# EAGLE library part STMICROELECTRONICS_STM32F446RET6 (library STM32F446RET6)
MCU 32-bit ARM Cortex M4 RISC 512KB Flash 2.5V/3.3V Medical 64-Pin LQFP Frame
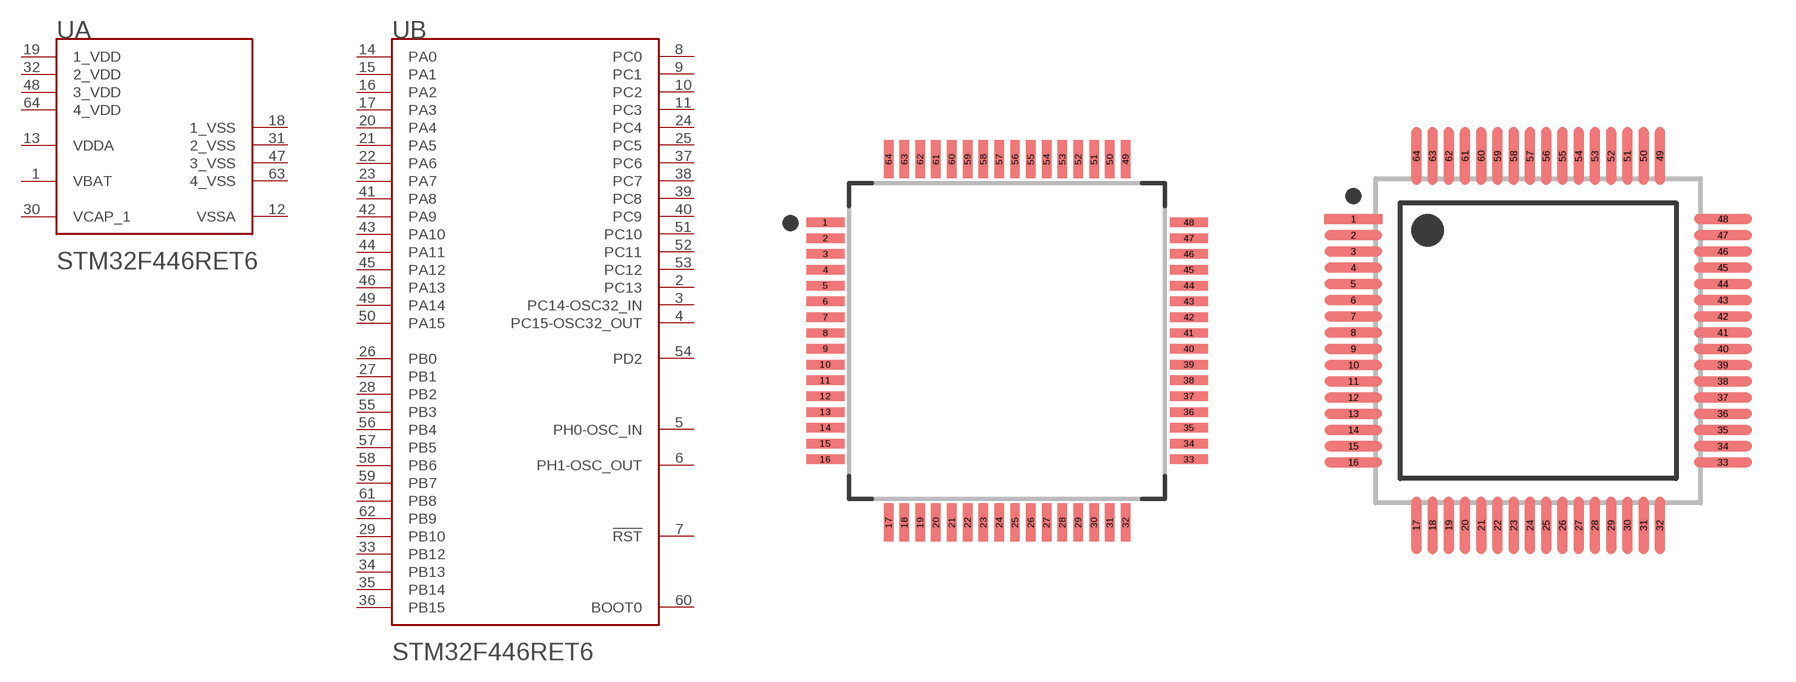
[diagram p0: symbol with the pads of STMICROELECTRONICS_STM32F446RET6_0; footprints STMICROELECTRONICS_STM32F446RET6_0, STMICROELECTRONICS_STM32F446RET6_1]

Designator prefix U; gates A=STMICROELECTRONICS_STM32F446RET6_0_0 B=STMICROELECTRONICS_STM32F446RET6_0_1

## STMICROELECTRONICS_STM32F446RET6STMICROELECTRONICS_STM32F446RET6_0_0 (AMBIENT_TEMPERATURE_RANGE_HIGH: +85°C; AMBIENT_TEMPERATURE_RANGE_LOW: -40°C; AUTOMOTIVE: No; CENTROID_NOT_SPECIFIED: No; CORE_ARCHITECTURE: ARM Cortex-M4; DATASHEET: https://www.st.com/resource/en/datasheet/stm32f446re.pdf; DATA_BUS_WIDTH: 32b; DEVICE_CLASS_L1: Integrated Circuits (ICs); DEVICE_CLASS_L2: Embedded Processors and Controllers; DEVICE_CLASS_L3: Microcontrollers; DIGIKEY_DESCRIPTION: IC MCU 32BIT 512KB FLASH 64LQFP; DIGIKEY_PART_NUMBER: 497-15376-ND; FOOTPRINT_PARAMETERS_1: {"fp_type":"MQFP","params":{"N1":{"nom":16,"long name":"Leads on long side","min":null,"max":null,"short name":"N1","type":"count"},"N2":{"nom":16,"long name":"Leads on wide side","min":null,"max":null,"short name":"N2","type":"count"},"A":{"nom":false,"long name":"Height","min":false,"max":1600000,"short name":"A","type":"measurement"},"A1":{"nom":false,"long name":"Package clearance","min":50000,"max":150000,"short name":"A1","type":"measurement"},"A2":{"nom":1400000,"long name":"Package height","min":1350000,"max":1450000,"short name":"A2","type":"measurement"},"D":{"nom":12000000,"long name":"Length /w leads","min":false,"max":false,"short name":"D","type":"measurement"},"D1":{"nom":10000000,"long name":"Package length","min":false,"max":false,"short name":"D1","type":"measurement"},"E":{"nom":12000000,"long name":"Width /w leads","min":false,"max":false,"short name":"E","type":"measurement"},"E1":{"nom":10000000,"long name":"Package width","min":false,"max":false,"short name":"E1","type":"measurement"},"B":{"nom":220000,"long name":"Lead width","min":170000,"max":270000,"short name":"B","type":"measurement"},"C":{"nom":false,"long name":"Lead thickness","min":90000,"max":200000,"short name":"C","type":"measurement"},"L":{"nom":600000,"long name":"Lead foot length","min":450000,"max":750000,"short name":"L","type":"measurement"},"e":{"nom":500000,"long name":"Lead pitch","min":null,"max":null,"short name":"e","type":"measurement"},"PHI":{"nom":false,"long name":"Lead angle","min":0,"max":70,"short name":"PHI","type":"measurement"},"HT":{"default":"No","long name":"Thermal pad","type":"multichoiceparent","short name":"HT","children":[]},"offset x":{"nom":0,"long name":"X Center offset","min":null,"max":null,"short name":"offset x","type":"measurement"},"offset y":{"nom":0,"long name":"Y Center offset","min":null,"max":null,"short name":"offset y","type":"measurement"},"LS":{"default":"Rounded rectangle","long name":"Land shape","type":"multichoice","short name":"LS"},"LS1":{"default":"Rectangle","long name":"Land shape (Pin 1)","type":"multichoice","short name":"LS1"},"solder toe":{"nom":550000,"long name":"Solder fillet (toe)","min":null,"max":null,"short name":"solder toe","type":"fixedmeasurement"},"solder heel":{"nom":450000,"long name":"Solder fillet (heel)","min":null,"max":null,"short name":"solder heel","type":"fixedmeasurement"},"solder side":{"nom":10000,"long name":"Solder fillet (side)","min":null,"max":null,"short name":"solder side","type":"fixedmeasurement"},"courtyard":{"nom":500000,"long name":"Courtyard","min":null,"max":null,"short name":"courtyard","type":"fixedmeasurement"},"SF":{"default":"A (<= 0.625mm pitch)","long name":"Packing level","type":"multichoiceparent","short name":"SF","help":"http://support.upverter.com/customer/portal/articles/978783-what-is-a-footprint-packing-level","children":["solder toe","solder heel","solder side","courtyard"]}}}; FOOTPRINT_PARAMETERS_2: {"fp_type":"MQFP","params":{"N1":{"nom":16,"long name":"Leads on long side","min":null,"max":null,"short name":"N1","type":"count"},"N2":{"nom":16,"long name":"Leads on wide side","min":null,"max":null,"short name":"N2","type":"count"},"A":{"nom":false,"long name":"Height","min":false,"max":1600000,"short name":"A","type":"measurement"},"A1":{"nom":false,"long name":"Package clearance","min":50000,"max":150000,"short name":"A1","type":"measurement"},"A2":{"nom":1400000,"long name":"Package height","min":1350000,"max":1450000,"short name":"A2","type":"measurement"},"D":{"nom":12000000,"long name":"Length /w leads","min":false,"max":false,"short name":"D","type":"measurement"},"D1":{"nom":10000000,"long name":"Package length","min":false,"max":false,"short name":"D1","type":"measurement"},"E":{"nom":12000000,"long name":"Width /w leads","min":false,"max":false,"short name":"E","type":"measurement"},"E1":{"nom":10000000,"long name":"Package width","min":false,"max":false,"short name":"E1","type":"measurement"},"B":{"nom":220000,"long name":"Lead width","min":170000,"max":270000,"short name":"B","type":"measurement"},"C":{"nom":false,"long name":"Lead thickness","min":90000,"max":200000,"short name":"C","type":"measurement"},"L":{"nom":600000,"long name":"Lead foot length","min":450000,"max":750000,"short name":"L","type":"measurement"},"e":{"nom":500000,"long name":"Lead pitch","min":null,"max":null,"short name":"e","type":"measurement"},"PHI":{"nom":false,"long name":"Lead angle","min":0,"max":70,"short name":"PHI","type":"measurement"},"HT":{"default":"No","long name":"Thermal pad","type":"multichoiceparent","short name":"HT","children":[]},"offset x":{"nom":0,"long name":"X Center offset","min":null,"max":null,"short name":"offset x","type":"measurement"},"offset y":{"nom":0,"long name":"Y Center offset","min":null,"max":null,"short name":"offset y","type":"measurement"},"LS":{"default":"Rounded rectangle","long name":"Land shape","type":"multichoice","short name":"LS"},"LS1":{"default":"Rectangle","long name":"Land shape (Pin 1)","type":"multichoice","short name":"LS1"},"solder toe":{"nom":350000,"long name":"Solder fillet (toe)","min":null,"max":null,"short name":"solder toe","type":"fixedmeasurement"},"solder heel":{"nom":350000,"long name":"Solder fillet (heel)","min":null,"max":null,"short name":"solder heel","type":"fixedmeasurement"},"solder side":{"nom":-20000,"long name":"Solder fillet (side)","min":null,"max":null,"short name":"solder side","type":"fixedmeasurement"},"courtyard":{"nom":250000,"long name":"Courtyard","min":null,"max":null,"short name":"courtyard","type":"fixedmeasurement"},"SF":{"default":"B (<= 0.625mm pitch)","long name":"Packing level","type":"multichoiceparent","short name":"SF","help":"http://support.upverter.com/customer/portal/articles/978783-what-is-a-footprint-packing-level","children":["solder toe","solder heel","solder side","courtyard"]}}}; FOOTPRINT_PARAMETERS_3: {"fp_type":"MQFP","params":{"N1":{"nom":16,"long name":"Leads on long side","min":null,"max":null,"short name":"N1","type":"count"},"N2":{"nom":16,"long name":"Leads on wide side","min":null,"max":null,"short name":"N2","type":"count"},"A":{"nom":false,"long name":"Height","min":false,"max":1600000,"short name":"A","type":"measurement"},"A1":{"nom":false,"long name":"Package clearance","min":50000,"max":150000,"short name":"A1","type":"measurement"},"A2":{"nom":1400000,"long name":"Package height","min":1350000,"max":1450000,"short name":"A2","type":"measurement"},"D":{"nom":12000000,"long name":"Length /w leads","min":false,"max":false,"short name":"D","type":"measurement"},"D1":{"nom":10000000,"long name":"Package length","min":false,"max":false,"short name":"D1","type":"measurement"},"E":{"nom":12000000,"long name":"Width /w leads","min":false,"max":false,"short name":"E","type":"measurement"},"E1":{"nom":10000000,"long name":"Package width","min":false,"max":false,"short name":"E1","type":"measurement"},"B":{"nom":220000,"long name":"Lead width","min":170000,"max":270000,"short name":"B","type":"measurement"},"C":{"nom":false,"long name":"Lead thickness","min":90000,"max":200000,"short name":"C","type":"measurement"},"L":{"nom":600000,"long name":"Lead foot length","min":450000,"max":750000,"short name":"L","type":"measurement"},"e":{"nom":500000,"long name":"Lead pitch","min":null,"max":null,"short name":"e","type":"measurement"},"PHI":{"nom":false,"long name":"Lead angle","min":0,"max":70,"short name":"PHI","type":"measurement"},"HT":{"default":"No","long name":"Thermal pad","type":"multichoiceparent","short name":"HT","children":[]},"offset x":{"nom":0,"long name":"X Center offset","min":null,"max":null,"short name":"offset x","type":"measurement"},"offset y":{"nom":0,"long name":"Y Center offset","min":null,"max":null,"short name":"offset y","type":"measurement"},"LS":{"default":"Rounded rectangle","long name":"Land shape","type":"multichoice","short name":"LS"},"LS1":{"default":"Rectangle","long name":"Land shape (Pin 1)","type":"multichoice","short name":"LS1"},"solder toe":{"nom":150000,"long name":"Solder fillet (toe)","min":null,"max":null,"short name":"solder toe","type":"fixedmeasurement"},"solder heel":{"nom":250000,"long name":"Solder fillet (heel)","min":null,"max":null,"short name":"solder heel","type":"fixedmeasurement"},"solder side":{"nom":-40000,"long name":"Solder fillet (side)","min":null,"max":null,"short name":"solder side","type":"fixedmeasurement"},"courtyard":{"nom":100000,"long name":"Courtyard","min":null,"max":null,"short name":"courtyard","type":"fixedmeasurement"},"SF":{"default":"C (<= 0.625mm pitch)","long name":"Packing level","type":"multichoiceparent","short name":"SF","help":"http://support.upverter.com/customer/portal/articles/978783-what-is-a-footprint-packing-level","children":["solder toe","solder heel","solder side","courtyard"]}}}; FOOTPRINT_VARIANT_NAME_0: Recommended_Land_Pattern; FOOTPRINT_VARIANT_NAME_1: IPC_A; FOOTPRINT_VARIANT_NAME_2: IPC_B; FOOTPRINT_VARIANT_NAME_3: IPC_C; FREQUENCY: 180MHz; HEIGHT: 1.6mm; INTERFACE: I2C,SPI,UART,USART,CAN,USB,LIN,IrDA,I2S,Other; LEAD_FREE: Yes; MAX_JUNCTION_TEMP: +125°C; MAX_SUPPLY_VOLTAGE: 3.6V; MEMORY_SIZE: 512KBytes; MEMORY_TYPE: FLASH; MF: STMicroelectronics; MFG_PACKAGE_IDENT: LQFP64-5W; MFG_PACKAGE_IDENT_COMPONENT_ID: ac0a92a8d775d0c0; MFG_PACKAGE_IDENT_DATE: 0; MFG_PACKAGE_IDENT_REV: 3; MIN_SUPPLY_VOLTAGE: 1.65V; MOUSER_DESCRIPTION: ARM Microcontrollers - MCU High-performance and DSP with FP, ARM Cortex-M4 MCU with 512 Kbytes Flash, 180 MHz CPU, Art Accelerator, SDRAM; MOUSER_PART_NUMBER: 511-STM32F446RET6; MPN: STM32F446RET6; NUMBER_OF_A/D_CONVERTERS: 3; NUMBER_OF_ADC_CHANNELS: 16; NUMBER_OF_CORES: 1; NUMBER_OF_I/OS: 50; NUMBER_OF_I2C_CHANNELS: 4; NUMBER_OF_PWM_CHANNELS: 25; NUMBER_OF_SPI_CHANNELS: 4; NUMBER_OF_TIMERS/COUNTERS: 14; NUMBER_OF_UART_CHANNELS: 6; NUMBER_OF_USB_CHANNELS: 2; PACKAGE: LQFP64; PREFIX: U; RAM_SIZE: 128KBytes; ROHS: Yes; STANDOFF_HEIGHT: 0.05mm; TEMPERATURE_RANGE_HIGH: +85°C; TEMPERATURE_RANGE_LOW: -40°C; VERIFICATION_VERSION: 0.0.0.3)  [STMICROELECTRONICS_STM32F446RET6_0]
1  A:VBAT  pwr
2  B:PC13
3  B:PC14-OSC32_IN
4  B:PC15-OSC32_OUT
5  B:PH0-OSC_IN
6  B:PH1-OSC_OUT
7  B:!RST!  in
8  B:PC0
9  B:PC1
10  B:PC2
11  B:PC3
12  A:VSSA  pwr
13  A:VDDA  pwr
14  B:PA0
15  B:PA1
16  B:PA2
17  B:PA3
18  A:1_VSS  pwr
19  A:1_VDD  pwr
20  B:PA4
21  B:PA5
22  B:PA6
23  B:PA7
24  B:PC4
25  B:PC5
26  B:PB0
27  B:PB1
28  B:PB2
29  B:PB10
30  A:VCAP_1  pwr
31  A:2_VSS  pwr
32  A:2_VDD  pwr
33  B:PB12
34  B:PB13
35  B:PB14
36  B:PB15
37  B:PC6
38  B:PC7
39  B:PC8
40  B:PC9
41  B:PA8
42  B:PA9
43  B:PA10
44  B:PA11
45  B:PA12
46  B:PA13
47  A:3_VSS  pwr
48  A:3_VDD  pwr
49  B:PA14
50  B:PA15
51  B:PC10
52  B:PC11
53  B:PC12
54  B:PD2
55  B:PB3
56  B:PB4
57  B:PB5
58  B:PB6
59  B:PB7
60  B:BOOT0  in
61  B:PB8
62  B:PB9
63  A:4_VSS  pwr
64  A:4_VDD  pwr

## STMICROELECTRONICS_STM32F446RET6STMICROELECTRONICS_STM32F446RET6_0_1 (AMBIENT_TEMPERATURE_RANGE_HIGH: +85°C; AMBIENT_TEMPERATURE_RANGE_LOW: -40°C; AUTOMOTIVE: No; CENTROID_NOT_SPECIFIED: No; CORE_ARCHITECTURE: ARM Cortex-M4; DATASHEET: https://www.st.com/resource/en/datasheet/stm32f446re.pdf; DATA_BUS_WIDTH: 32b; DEVICE_CLASS_L1: Integrated Circuits (ICs); DEVICE_CLASS_L2: Embedded Processors and Controllers; DEVICE_CLASS_L3: Microcontrollers; DIGIKEY_DESCRIPTION: IC MCU 32BIT 512KB FLASH 64LQFP; DIGIKEY_PART_NUMBER: 497-15376-ND; FOOTPRINT_PARAMETERS_1: {"fp_type":"MQFP","params":{"N1":{"nom":16,"long name":"Leads on long side","min":null,"max":null,"short name":"N1","type":"count"},"N2":{"nom":16,"long name":"Leads on wide side","min":null,"max":null,"short name":"N2","type":"count"},"A":{"nom":false,"long name":"Height","min":false,"max":1600000,"short name":"A","type":"measurement"},"A1":{"nom":false,"long name":"Package clearance","min":50000,"max":150000,"short name":"A1","type":"measurement"},"A2":{"nom":1400000,"long name":"Package height","min":1350000,"max":1450000,"short name":"A2","type":"measurement"},"D":{"nom":12000000,"long name":"Length /w leads","min":false,"max":false,"short name":"D","type":"measurement"},"D1":{"nom":10000000,"long name":"Package length","min":false,"max":false,"short name":"D1","type":"measurement"},"E":{"nom":12000000,"long name":"Width /w leads","min":false,"max":false,"short name":"E","type":"measurement"},"E1":{"nom":10000000,"long name":"Package width","min":false,"max":false,"short name":"E1","type":"measurement"},"B":{"nom":220000,"long name":"Lead width","min":170000,"max":270000,"short name":"B","type":"measurement"},"C":{"nom":false,"long name":"Lead thickness","min":90000,"max":200000,"short name":"C","type":"measurement"},"L":{"nom":600000,"long name":"Lead foot length","min":450000,"max":750000,"short name":"L","type":"measurement"},"e":{"nom":500000,"long name":"Lead pitch","min":null,"max":null,"short name":"e","type":"measurement"},"PHI":{"nom":false,"long name":"Lead angle","min":0,"max":70,"short name":"PHI","type":"measurement"},"HT":{"default":"No","long name":"Thermal pad","type":"multichoiceparent","short name":"HT","children":[]},"offset x":{"nom":0,"long name":"X Center offset","min":null,"max":null,"short name":"offset x","type":"measurement"},"offset y":{"nom":0,"long name":"Y Center offset","min":null,"max":null,"short name":"offset y","type":"measurement"},"LS":{"default":"Rounded rectangle","long name":"Land shape","type":"multichoice","short name":"LS"},"LS1":{"default":"Rectangle","long name":"Land shape (Pin 1)","type":"multichoice","short name":"LS1"},"solder toe":{"nom":550000,"long name":"Solder fillet (toe)","min":null,"max":null,"short name":"solder toe","type":"fixedmeasurement"},"solder heel":{"nom":450000,"long name":"Solder fillet (heel)","min":null,"max":null,"short name":"solder heel","type":"fixedmeasurement"},"solder side":{"nom":10000,"long name":"Solder fillet (side)","min":null,"max":null,"short name":"solder side","type":"fixedmeasurement"},"courtyard":{"nom":500000,"long name":"Courtyard","min":null,"max":null,"short name":"courtyard","type":"fixedmeasurement"},"SF":{"default":"A (<= 0.625mm pitch)","long name":"Packing level","type":"multichoiceparent","short name":"SF","help":"http://support.upverter.com/customer/portal/articles/978783-what-is-a-footprint-packing-level","children":["solder toe","solder heel","solder side","courtyard"]}}}; FOOTPRINT_PARAMETERS_2: {"fp_type":"MQFP","params":{"N1":{"nom":16,"long name":"Leads on long side","min":null,"max":null,"short name":"N1","type":"count"},"N2":{"nom":16,"long name":"Leads on wide side","min":null,"max":null,"short name":"N2","type":"count"},"A":{"nom":false,"long name":"Height","min":false,"max":1600000,"short name":"A","type":"measurement"},"A1":{"nom":false,"long name":"Package clearance","min":50000,"max":150000,"short name":"A1","type":"measurement"},"A2":{"nom":1400000,"long name":"Package height","min":1350000,"max":1450000,"short name":"A2","type":"measurement"},"D":{"nom":12000000,"long name":"Length /w leads","min":false,"max":false,"short name":"D","type":"measurement"},"D1":{"nom":10000000,"long name":"Package length","min":false,"max":false,"short name":"D1","type":"measurement"},"E":{"nom":12000000,"long name":"Width /w leads","min":false,"max":false,"short name":"E","type":"measurement"},"E1":{"nom":10000000,"long name":"Package width","min":false,"max":false,"short name":"E1","type":"measurement"},"B":{"nom":220000,"long name":"Lead width","min":170000,"max":270000,"short name":"B","type":"measurement"},"C":{"nom":false,"long name":"Lead thickness","min":90000,"max":200000,"short name":"C","type":"measurement"},"L":{"nom":600000,"long name":"Lead foot length","min":450000,"max":750000,"short name":"L","type":"measurement"},"e":{"nom":500000,"long name":"Lead pitch","min":null,"max":null,"short name":"e","type":"measurement"},"PHI":{"nom":false,"long name":"Lead angle","min":0,"max":70,"short name":"PHI","type":"measurement"},"HT":{"default":"No","long name":"Thermal pad","type":"multichoiceparent","short name":"HT","children":[]},"offset x":{"nom":0,"long name":"X Center offset","min":null,"max":null,"short name":"offset x","type":"measurement"},"offset y":{"nom":0,"long name":"Y Center offset","min":null,"max":null,"short name":"offset y","type":"measurement"},"LS":{"default":"Rounded rectangle","long name":"Land shape","type":"multichoice","short name":"LS"},"LS1":{"default":"Rectangle","long name":"Land shape (Pin 1)","type":"multichoice","short name":"LS1"},"solder toe":{"nom":350000,"long name":"Solder fillet (toe)","min":null,"max":null,"short name":"solder toe","type":"fixedmeasurement"},"solder heel":{"nom":350000,"long name":"Solder fillet (heel)","min":null,"max":null,"short name":"solder heel","type":"fixedmeasurement"},"solder side":{"nom":-20000,"long name":"Solder fillet (side)","min":null,"max":null,"short name":"solder side","type":"fixedmeasurement"},"courtyard":{"nom":250000,"long name":"Courtyard","min":null,"max":null,"short name":"courtyard","type":"fixedmeasurement"},"SF":{"default":"B (<= 0.625mm pitch)","long name":"Packing level","type":"multichoiceparent","short name":"SF","help":"http://support.upverter.com/customer/portal/articles/978783-what-is-a-footprint-packing-level","children":["solder toe","solder heel","solder side","courtyard"]}}}; FOOTPRINT_PARAMETERS_3: {"fp_type":"MQFP","params":{"N1":{"nom":16,"long name":"Leads on long side","min":null,"max":null,"short name":"N1","type":"count"},"N2":{"nom":16,"long name":"Leads on wide side","min":null,"max":null,"short name":"N2","type":"count"},"A":{"nom":false,"long name":"Height","min":false,"max":1600000,"short name":"A","type":"measurement"},"A1":{"nom":false,"long name":"Package clearance","min":50000,"max":150000,"short name":"A1","type":"measurement"},"A2":{"nom":1400000,"long name":"Package height","min":1350000,"max":1450000,"short name":"A2","type":"measurement"},"D":{"nom":12000000,"long name":"Length /w leads","min":false,"max":false,"short name":"D","type":"measurement"},"D1":{"nom":10000000,"long name":"Package length","min":false,"max":false,"short name":"D1","type":"measurement"},"E":{"nom":12000000,"long name":"Width /w leads","min":false,"max":false,"short name":"E","type":"measurement"},"E1":{"nom":10000000,"long name":"Package width","min":false,"max":false,"short name":"E1","type":"measurement"},"B":{"nom":220000,"long name":"Lead width","min":170000,"max":270000,"short name":"B","type":"measurement"},"C":{"nom":false,"long name":"Lead thickness","min":90000,"max":200000,"short name":"C","type":"measurement"},"L":{"nom":600000,"long name":"Lead foot length","min":450000,"max":750000,"short name":"L","type":"measurement"},"e":{"nom":500000,"long name":"Lead pitch","min":null,"max":null,"short name":"e","type":"measurement"},"PHI":{"nom":false,"long name":"Lead angle","min":0,"max":70,"short name":"PHI","type":"measurement"},"HT":{"default":"No","long name":"Thermal pad","type":"multichoiceparent","short name":"HT","children":[]},"offset x":{"nom":0,"long name":"X Center offset","min":null,"max":null,"short name":"offset x","type":"measurement"},"offset y":{"nom":0,"long name":"Y Center offset","min":null,"max":null,"short name":"offset y","type":"measurement"},"LS":{"default":"Rounded rectangle","long name":"Land shape","type":"multichoice","short name":"LS"},"LS1":{"default":"Rectangle","long name":"Land shape (Pin 1)","type":"multichoice","short name":"LS1"},"solder toe":{"nom":150000,"long name":"Solder fillet (toe)","min":null,"max":null,"short name":"solder toe","type":"fixedmeasurement"},"solder heel":{"nom":250000,"long name":"Solder fillet (heel)","min":null,"max":null,"short name":"solder heel","type":"fixedmeasurement"},"solder side":{"nom":-40000,"long name":"Solder fillet (side)","min":null,"max":null,"short name":"solder side","type":"fixedmeasurement"},"courtyard":{"nom":100000,"long name":"Courtyard","min":null,"max":null,"short name":"courtyard","type":"fixedmeasurement"},"SF":{"default":"C (<= 0.625mm pitch)","long name":"Packing level","type":"multichoiceparent","short name":"SF","help":"http://support.upverter.com/customer/portal/articles/978783-what-is-a-footprint-packing-level","children":["solder toe","solder heel","solder side","courtyard"]}}}; FOOTPRINT_VARIANT_NAME_0: Recommended_Land_Pattern; FOOTPRINT_VARIANT_NAME_1: IPC_A; FOOTPRINT_VARIANT_NAME_2: IPC_B; FOOTPRINT_VARIANT_NAME_3: IPC_C; FREQUENCY: 180MHz; HEIGHT: 1.6mm; INTERFACE: I2C,SPI,UART,USART,CAN,USB,LIN,IrDA,I2S,Other; LEAD_FREE: Yes; MAX_JUNCTION_TEMP: +125°C; MAX_SUPPLY_VOLTAGE: 3.6V; MEMORY_SIZE: 512KBytes; MEMORY_TYPE: FLASH; MF: STMicroelectronics; MFG_PACKAGE_IDENT: LQFP64-5W; MFG_PACKAGE_IDENT_COMPONENT_ID: ac0a92a8d775d0c0; MFG_PACKAGE_IDENT_DATE: 0; MFG_PACKAGE_IDENT_REV: 3; MIN_SUPPLY_VOLTAGE: 1.65V; MOUSER_DESCRIPTION: ARM Microcontrollers - MCU High-performance and DSP with FP, ARM Cortex-M4 MCU with 512 Kbytes Flash, 180 MHz CPU, Art Accelerator, SDRAM; MOUSER_PART_NUMBER: 511-STM32F446RET6; MPN: STM32F446RET6; NUMBER_OF_A/D_CONVERTERS: 3; NUMBER_OF_ADC_CHANNELS: 16; NUMBER_OF_CORES: 1; NUMBER_OF_I/OS: 50; NUMBER_OF_I2C_CHANNELS: 4; NUMBER_OF_PWM_CHANNELS: 25; NUMBER_OF_SPI_CHANNELS: 4; NUMBER_OF_TIMERS/COUNTERS: 14; NUMBER_OF_UART_CHANNELS: 6; NUMBER_OF_USB_CHANNELS: 2; PACKAGE: LQFP64; PREFIX: U; RAM_SIZE: 128KBytes; ROHS: Yes; STANDOFF_HEIGHT: 0.05mm; TEMPERATURE_RANGE_HIGH: +85°C; TEMPERATURE_RANGE_LOW: -40°C; VERIFICATION_VERSION: 0.0.0.3)  [STMICROELECTRONICS_STM32F446RET6_1]
Pads as for STMICROELECTRONICS_STM32F446RET6_0

## STMICROELECTRONICS_STM32F446RET6STMICROELECTRONICS_STM32F446RET6_0_2 (AMBIENT_TEMPERATURE_RANGE_HIGH: +85°C; AMBIENT_TEMPERATURE_RANGE_LOW: -40°C; AUTOMOTIVE: No; CENTROID_NOT_SPECIFIED: No; CORE_ARCHITECTURE: ARM Cortex-M4; DATASHEET: https://www.st.com/resource/en/datasheet/stm32f446re.pdf; DATA_BUS_WIDTH: 32b; DEVICE_CLASS_L1: Integrated Circuits (ICs); DEVICE_CLASS_L2: Embedded Processors and Controllers; DEVICE_CLASS_L3: Microcontrollers; DIGIKEY_DESCRIPTION: IC MCU 32BIT 512KB FLASH 64LQFP; DIGIKEY_PART_NUMBER: 497-15376-ND; FOOTPRINT_PARAMETERS_1: {"fp_type":"MQFP","params":{"N1":{"nom":16,"long name":"Leads on long side","min":null,"max":null,"short name":"N1","type":"count"},"N2":{"nom":16,"long name":"Leads on wide side","min":null,"max":null,"short name":"N2","type":"count"},"A":{"nom":false,"long name":"Height","min":false,"max":1600000,"short name":"A","type":"measurement"},"A1":{"nom":false,"long name":"Package clearance","min":50000,"max":150000,"short name":"A1","type":"measurement"},"A2":{"nom":1400000,"long name":"Package height","min":1350000,"max":1450000,"short name":"A2","type":"measurement"},"D":{"nom":12000000,"long name":"Length /w leads","min":false,"max":false,"short name":"D","type":"measurement"},"D1":{"nom":10000000,"long name":"Package length","min":false,"max":false,"short name":"D1","type":"measurement"},"E":{"nom":12000000,"long name":"Width /w leads","min":false,"max":false,"short name":"E","type":"measurement"},"E1":{"nom":10000000,"long name":"Package width","min":false,"max":false,"short name":"E1","type":"measurement"},"B":{"nom":220000,"long name":"Lead width","min":170000,"max":270000,"short name":"B","type":"measurement"},"C":{"nom":false,"long name":"Lead thickness","min":90000,"max":200000,"short name":"C","type":"measurement"},"L":{"nom":600000,"long name":"Lead foot length","min":450000,"max":750000,"short name":"L","type":"measurement"},"e":{"nom":500000,"long name":"Lead pitch","min":null,"max":null,"short name":"e","type":"measurement"},"PHI":{"nom":false,"long name":"Lead angle","min":0,"max":70,"short name":"PHI","type":"measurement"},"HT":{"default":"No","long name":"Thermal pad","type":"multichoiceparent","short name":"HT","children":[]},"offset x":{"nom":0,"long name":"X Center offset","min":null,"max":null,"short name":"offset x","type":"measurement"},"offset y":{"nom":0,"long name":"Y Center offset","min":null,"max":null,"short name":"offset y","type":"measurement"},"LS":{"default":"Rounded rectangle","long name":"Land shape","type":"multichoice","short name":"LS"},"LS1":{"default":"Rectangle","long name":"Land shape (Pin 1)","type":"multichoice","short name":"LS1"},"solder toe":{"nom":550000,"long name":"Solder fillet (toe)","min":null,"max":null,"short name":"solder toe","type":"fixedmeasurement"},"solder heel":{"nom":450000,"long name":"Solder fillet (heel)","min":null,"max":null,"short name":"solder heel","type":"fixedmeasurement"},"solder side":{"nom":10000,"long name":"Solder fillet (side)","min":null,"max":null,"short name":"solder side","type":"fixedmeasurement"},"courtyard":{"nom":500000,"long name":"Courtyard","min":null,"max":null,"short name":"courtyard","type":"fixedmeasurement"},"SF":{"default":"A (<= 0.625mm pitch)","long name":"Packing level","type":"multichoiceparent","short name":"SF","help":"http://support.upverter.com/customer/portal/articles/978783-what-is-a-footprint-packing-level","children":["solder toe","solder heel","solder side","courtyard"]}}}; FOOTPRINT_PARAMETERS_2: {"fp_type":"MQFP","params":{"N1":{"nom":16,"long name":"Leads on long side","min":null,"max":null,"short name":"N1","type":"count"},"N2":{"nom":16,"long name":"Leads on wide side","min":null,"max":null,"short name":"N2","type":"count"},"A":{"nom":false,"long name":"Height","min":false,"max":1600000,"short name":"A","type":"measurement"},"A1":{"nom":false,"long name":"Package clearance","min":50000,"max":150000,"short name":"A1","type":"measurement"},"A2":{"nom":1400000,"long name":"Package height","min":1350000,"max":1450000,"short name":"A2","type":"measurement"},"D":{"nom":12000000,"long name":"Length /w leads","min":false,"max":false,"short name":"D","type":"measurement"},"D1":{"nom":10000000,"long name":"Package length","min":false,"max":false,"short name":"D1","type":"measurement"},"E":{"nom":12000000,"long name":"Width /w leads","min":false,"max":false,"short name":"E","type":"measurement"},"E1":{"nom":10000000,"long name":"Package width","min":false,"max":false,"short name":"E1","type":"measurement"},"B":{"nom":220000,"long name":"Lead width","min":170000,"max":270000,"short name":"B","type":"measurement"},"C":{"nom":false,"long name":"Lead thickness","min":90000,"max":200000,"short name":"C","type":"measurement"},"L":{"nom":600000,"long name":"Lead foot length","min":450000,"max":750000,"short name":"L","type":"measurement"},"e":{"nom":500000,"long name":"Lead pitch","min":null,"max":null,"short name":"e","type":"measurement"},"PHI":{"nom":false,"long name":"Lead angle","min":0,"max":70,"short name":"PHI","type":"measurement"},"HT":{"default":"No","long name":"Thermal pad","type":"multichoiceparent","short name":"HT","children":[]},"offset x":{"nom":0,"long name":"X Center offset","min":null,"max":null,"short name":"offset x","type":"measurement"},"offset y":{"nom":0,"long name":"Y Center offset","min":null,"max":null,"short name":"offset y","type":"measurement"},"LS":{"default":"Rounded rectangle","long name":"Land shape","type":"multichoice","short name":"LS"},"LS1":{"default":"Rectangle","long name":"Land shape (Pin 1)","type":"multichoice","short name":"LS1"},"solder toe":{"nom":350000,"long name":"Solder fillet (toe)","min":null,"max":null,"short name":"solder toe","type":"fixedmeasurement"},"solder heel":{"nom":350000,"long name":"Solder fillet (heel)","min":null,"max":null,"short name":"solder heel","type":"fixedmeasurement"},"solder side":{"nom":-20000,"long name":"Solder fillet (side)","min":null,"max":null,"short name":"solder side","type":"fixedmeasurement"},"courtyard":{"nom":250000,"long name":"Courtyard","min":null,"max":null,"short name":"courtyard","type":"fixedmeasurement"},"SF":{"default":"B (<= 0.625mm pitch)","long name":"Packing level","type":"multichoiceparent","short name":"SF","help":"http://support.upverter.com/customer/portal/articles/978783-what-is-a-footprint-packing-level","children":["solder toe","solder heel","solder side","courtyard"]}}}; FOOTPRINT_PARAMETERS_3: {"fp_type":"MQFP","params":{"N1":{"nom":16,"long name":"Leads on long side","min":null,"max":null,"short name":"N1","type":"count"},"N2":{"nom":16,"long name":"Leads on wide side","min":null,"max":null,"short name":"N2","type":"count"},"A":{"nom":false,"long name":"Height","min":false,"max":1600000,"short name":"A","type":"measurement"},"A1":{"nom":false,"long name":"Package clearance","min":50000,"max":150000,"short name":"A1","type":"measurement"},"A2":{"nom":1400000,"long name":"Package height","min":1350000,"max":1450000,"short name":"A2","type":"measurement"},"D":{"nom":12000000,"long name":"Length /w leads","min":false,"max":false,"short name":"D","type":"measurement"},"D1":{"nom":10000000,"long name":"Package length","min":false,"max":false,"short name":"D1","type":"measurement"},"E":{"nom":12000000,"long name":"Width /w leads","min":false,"max":false,"short name":"E","type":"measurement"},"E1":{"nom":10000000,"long name":"Package width","min":false,"max":false,"short name":"E1","type":"measurement"},"B":{"nom":220000,"long name":"Lead width","min":170000,"max":270000,"short name":"B","type":"measurement"},"C":{"nom":false,"long name":"Lead thickness","min":90000,"max":200000,"short name":"C","type":"measurement"},"L":{"nom":600000,"long name":"Lead foot length","min":450000,"max":750000,"short name":"L","type":"measurement"},"e":{"nom":500000,"long name":"Lead pitch","min":null,"max":null,"short name":"e","type":"measurement"},"PHI":{"nom":false,"long name":"Lead angle","min":0,"max":70,"short name":"PHI","type":"measurement"},"HT":{"default":"No","long name":"Thermal pad","type":"multichoiceparent","short name":"HT","children":[]},"offset x":{"nom":0,"long name":"X Center offset","min":null,"max":null,"short name":"offset x","type":"measurement"},"offset y":{"nom":0,"long name":"Y Center offset","min":null,"max":null,"short name":"offset y","type":"measurement"},"LS":{"default":"Rounded rectangle","long name":"Land shape","type":"multichoice","short name":"LS"},"LS1":{"default":"Rectangle","long name":"Land shape (Pin 1)","type":"multichoice","short name":"LS1"},"solder toe":{"nom":150000,"long name":"Solder fillet (toe)","min":null,"max":null,"short name":"solder toe","type":"fixedmeasurement"},"solder heel":{"nom":250000,"long name":"Solder fillet (heel)","min":null,"max":null,"short name":"solder heel","type":"fixedmeasurement"},"solder side":{"nom":-40000,"long name":"Solder fillet (side)","min":null,"max":null,"short name":"solder side","type":"fixedmeasurement"},"courtyard":{"nom":100000,"long name":"Courtyard","min":null,"max":null,"short name":"courtyard","type":"fixedmeasurement"},"SF":{"default":"C (<= 0.625mm pitch)","long name":"Packing level","type":"multichoiceparent","short name":"SF","help":"http://support.upverter.com/customer/portal/articles/978783-what-is-a-footprint-packing-level","children":["solder toe","solder heel","solder side","courtyard"]}}}; FOOTPRINT_VARIANT_NAME_0: Recommended_Land_Pattern; FOOTPRINT_VARIANT_NAME_1: IPC_A; FOOTPRINT_VARIANT_NAME_2: IPC_B; FOOTPRINT_VARIANT_NAME_3: IPC_C; FREQUENCY: 180MHz; HEIGHT: 1.6mm; INTERFACE: I2C,SPI,UART,USART,CAN,USB,LIN,IrDA,I2S,Other; LEAD_FREE: Yes; MAX_JUNCTION_TEMP: +125°C; MAX_SUPPLY_VOLTAGE: 3.6V; MEMORY_SIZE: 512KBytes; MEMORY_TYPE: FLASH; MF: STMicroelectronics; MFG_PACKAGE_IDENT: LQFP64-5W; MFG_PACKAGE_IDENT_COMPONENT_ID: ac0a92a8d775d0c0; MFG_PACKAGE_IDENT_DATE: 0; MFG_PACKAGE_IDENT_REV: 3; MIN_SUPPLY_VOLTAGE: 1.65V; MOUSER_DESCRIPTION: ARM Microcontrollers - MCU High-performance and DSP with FP, ARM Cortex-M4 MCU with 512 Kbytes Flash, 180 MHz CPU, Art Accelerator, SDRAM; MOUSER_PART_NUMBER: 511-STM32F446RET6; MPN: STM32F446RET6; NUMBER_OF_A/D_CONVERTERS: 3; NUMBER_OF_ADC_CHANNELS: 16; NUMBER_OF_CORES: 1; NUMBER_OF_I/OS: 50; NUMBER_OF_I2C_CHANNELS: 4; NUMBER_OF_PWM_CHANNELS: 25; NUMBER_OF_SPI_CHANNELS: 4; NUMBER_OF_TIMERS/COUNTERS: 14; NUMBER_OF_UART_CHANNELS: 6; NUMBER_OF_USB_CHANNELS: 2; PACKAGE: LQFP64; PREFIX: U; RAM_SIZE: 128KBytes; ROHS: Yes; STANDOFF_HEIGHT: 0.05mm; TEMPERATURE_RANGE_HIGH: +85°C; TEMPERATURE_RANGE_LOW: -40°C; VERIFICATION_VERSION: 0.0.0.3)  [STMICROELECTRONICS_STM32F446RET6_2]
Pads as for STMICROELECTRONICS_STM32F446RET6_0

## STMICROELECTRONICS_STM32F446RET6STMICROELECTRONICS_STM32F446RET6_0_3 (AMBIENT_TEMPERATURE_RANGE_HIGH: +85°C; AMBIENT_TEMPERATURE_RANGE_LOW: -40°C; AUTOMOTIVE: No; CENTROID_NOT_SPECIFIED: No; CORE_ARCHITECTURE: ARM Cortex-M4; DATASHEET: https://www.st.com/resource/en/datasheet/stm32f446re.pdf; DATA_BUS_WIDTH: 32b; DEVICE_CLASS_L1: Integrated Circuits (ICs); DEVICE_CLASS_L2: Embedded Processors and Controllers; DEVICE_CLASS_L3: Microcontrollers; DIGIKEY_DESCRIPTION: IC MCU 32BIT 512KB FLASH 64LQFP; DIGIKEY_PART_NUMBER: 497-15376-ND; FOOTPRINT_PARAMETERS_1: {"fp_type":"MQFP","params":{"N1":{"nom":16,"long name":"Leads on long side","min":null,"max":null,"short name":"N1","type":"count"},"N2":{"nom":16,"long name":"Leads on wide side","min":null,"max":null,"short name":"N2","type":"count"},"A":{"nom":false,"long name":"Height","min":false,"max":1600000,"short name":"A","type":"measurement"},"A1":{"nom":false,"long name":"Package clearance","min":50000,"max":150000,"short name":"A1","type":"measurement"},"A2":{"nom":1400000,"long name":"Package height","min":1350000,"max":1450000,"short name":"A2","type":"measurement"},"D":{"nom":12000000,"long name":"Length /w leads","min":false,"max":false,"short name":"D","type":"measurement"},"D1":{"nom":10000000,"long name":"Package length","min":false,"max":false,"short name":"D1","type":"measurement"},"E":{"nom":12000000,"long name":"Width /w leads","min":false,"max":false,"short name":"E","type":"measurement"},"E1":{"nom":10000000,"long name":"Package width","min":false,"max":false,"short name":"E1","type":"measurement"},"B":{"nom":220000,"long name":"Lead width","min":170000,"max":270000,"short name":"B","type":"measurement"},"C":{"nom":false,"long name":"Lead thickness","min":90000,"max":200000,"short name":"C","type":"measurement"},"L":{"nom":600000,"long name":"Lead foot length","min":450000,"max":750000,"short name":"L","type":"measurement"},"e":{"nom":500000,"long name":"Lead pitch","min":null,"max":null,"short name":"e","type":"measurement"},"PHI":{"nom":false,"long name":"Lead angle","min":0,"max":70,"short name":"PHI","type":"measurement"},"HT":{"default":"No","long name":"Thermal pad","type":"multichoiceparent","short name":"HT","children":[]},"offset x":{"nom":0,"long name":"X Center offset","min":null,"max":null,"short name":"offset x","type":"measurement"},"offset y":{"nom":0,"long name":"Y Center offset","min":null,"max":null,"short name":"offset y","type":"measurement"},"LS":{"default":"Rounded rectangle","long name":"Land shape","type":"multichoice","short name":"LS"},"LS1":{"default":"Rectangle","long name":"Land shape (Pin 1)","type":"multichoice","short name":"LS1"},"solder toe":{"nom":550000,"long name":"Solder fillet (toe)","min":null,"max":null,"short name":"solder toe","type":"fixedmeasurement"},"solder heel":{"nom":450000,"long name":"Solder fillet (heel)","min":null,"max":null,"short name":"solder heel","type":"fixedmeasurement"},"solder side":{"nom":10000,"long name":"Solder fillet (side)","min":null,"max":null,"short name":"solder side","type":"fixedmeasurement"},"courtyard":{"nom":500000,"long name":"Courtyard","min":null,"max":null,"short name":"courtyard","type":"fixedmeasurement"},"SF":{"default":"A (<= 0.625mm pitch)","long name":"Packing level","type":"multichoiceparent","short name":"SF","help":"http://support.upverter.com/customer/portal/articles/978783-what-is-a-footprint-packing-level","children":["solder toe","solder heel","solder side","courtyard"]}}}; FOOTPRINT_PARAMETERS_2: {"fp_type":"MQFP","params":{"N1":{"nom":16,"long name":"Leads on long side","min":null,"max":null,"short name":"N1","type":"count"},"N2":{"nom":16,"long name":"Leads on wide side","min":null,"max":null,"short name":"N2","type":"count"},"A":{"nom":false,"long name":"Height","min":false,"max":1600000,"short name":"A","type":"measurement"},"A1":{"nom":false,"long name":"Package clearance","min":50000,"max":150000,"short name":"A1","type":"measurement"},"A2":{"nom":1400000,"long name":"Package height","min":1350000,"max":1450000,"short name":"A2","type":"measurement"},"D":{"nom":12000000,"long name":"Length /w leads","min":false,"max":false,"short name":"D","type":"measurement"},"D1":{"nom":10000000,"long name":"Package length","min":false,"max":false,"short name":"D1","type":"measurement"},"E":{"nom":12000000,"long name":"Width /w leads","min":false,"max":false,"short name":"E","type":"measurement"},"E1":{"nom":10000000,"long name":"Package width","min":false,"max":false,"short name":"E1","type":"measurement"},"B":{"nom":220000,"long name":"Lead width","min":170000,"max":270000,"short name":"B","type":"measurement"},"C":{"nom":false,"long name":"Lead thickness","min":90000,"max":200000,"short name":"C","type":"measurement"},"L":{"nom":600000,"long name":"Lead foot length","min":450000,"max":750000,"short name":"L","type":"measurement"},"e":{"nom":500000,"long name":"Lead pitch","min":null,"max":null,"short name":"e","type":"measurement"},"PHI":{"nom":false,"long name":"Lead angle","min":0,"max":70,"short name":"PHI","type":"measurement"},"HT":{"default":"No","long name":"Thermal pad","type":"multichoiceparent","short name":"HT","children":[]},"offset x":{"nom":0,"long name":"X Center offset","min":null,"max":null,"short name":"offset x","type":"measurement"},"offset y":{"nom":0,"long name":"Y Center offset","min":null,"max":null,"short name":"offset y","type":"measurement"},"LS":{"default":"Rounded rectangle","long name":"Land shape","type":"multichoice","short name":"LS"},"LS1":{"default":"Rectangle","long name":"Land shape (Pin 1)","type":"multichoice","short name":"LS1"},"solder toe":{"nom":350000,"long name":"Solder fillet (toe)","min":null,"max":null,"short name":"solder toe","type":"fixedmeasurement"},"solder heel":{"nom":350000,"long name":"Solder fillet (heel)","min":null,"max":null,"short name":"solder heel","type":"fixedmeasurement"},"solder side":{"nom":-20000,"long name":"Solder fillet (side)","min":null,"max":null,"short name":"solder side","type":"fixedmeasurement"},"courtyard":{"nom":250000,"long name":"Courtyard","min":null,"max":null,"short name":"courtyard","type":"fixedmeasurement"},"SF":{"default":"B (<= 0.625mm pitch)","long name":"Packing level","type":"multichoiceparent","short name":"SF","help":"http://support.upverter.com/customer/portal/articles/978783-what-is-a-footprint-packing-level","children":["solder toe","solder heel","solder side","courtyard"]}}}; FOOTPRINT_PARAMETERS_3: {"fp_type":"MQFP","params":{"N1":{"nom":16,"long name":"Leads on long side","min":null,"max":null,"short name":"N1","type":"count"},"N2":{"nom":16,"long name":"Leads on wide side","min":null,"max":null,"short name":"N2","type":"count"},"A":{"nom":false,"long name":"Height","min":false,"max":1600000,"short name":"A","type":"measurement"},"A1":{"nom":false,"long name":"Package clearance","min":50000,"max":150000,"short name":"A1","type":"measurement"},"A2":{"nom":1400000,"long name":"Package height","min":1350000,"max":1450000,"short name":"A2","type":"measurement"},"D":{"nom":12000000,"long name":"Length /w leads","min":false,"max":false,"short name":"D","type":"measurement"},"D1":{"nom":10000000,"long name":"Package length","min":false,"max":false,"short name":"D1","type":"measurement"},"E":{"nom":12000000,"long name":"Width /w leads","min":false,"max":false,"short name":"E","type":"measurement"},"E1":{"nom":10000000,"long name":"Package width","min":false,"max":false,"short name":"E1","type":"measurement"},"B":{"nom":220000,"long name":"Lead width","min":170000,"max":270000,"short name":"B","type":"measurement"},"C":{"nom":false,"long name":"Lead thickness","min":90000,"max":200000,"short name":"C","type":"measurement"},"L":{"nom":600000,"long name":"Lead foot length","min":450000,"max":750000,"short name":"L","type":"measurement"},"e":{"nom":500000,"long name":"Lead pitch","min":null,"max":null,"short name":"e","type":"measurement"},"PHI":{"nom":false,"long name":"Lead angle","min":0,"max":70,"short name":"PHI","type":"measurement"},"HT":{"default":"No","long name":"Thermal pad","type":"multichoiceparent","short name":"HT","children":[]},"offset x":{"nom":0,"long name":"X Center offset","min":null,"max":null,"short name":"offset x","type":"measurement"},"offset y":{"nom":0,"long name":"Y Center offset","min":null,"max":null,"short name":"offset y","type":"measurement"},"LS":{"default":"Rounded rectangle","long name":"Land shape","type":"multichoice","short name":"LS"},"LS1":{"default":"Rectangle","long name":"Land shape (Pin 1)","type":"multichoice","short name":"LS1"},"solder toe":{"nom":150000,"long name":"Solder fillet (toe)","min":null,"max":null,"short name":"solder toe","type":"fixedmeasurement"},"solder heel":{"nom":250000,"long name":"Solder fillet (heel)","min":null,"max":null,"short name":"solder heel","type":"fixedmeasurement"},"solder side":{"nom":-40000,"long name":"Solder fillet (side)","min":null,"max":null,"short name":"solder side","type":"fixedmeasurement"},"courtyard":{"nom":100000,"long name":"Courtyard","min":null,"max":null,"short name":"courtyard","type":"fixedmeasurement"},"SF":{"default":"C (<= 0.625mm pitch)","long name":"Packing level","type":"multichoiceparent","short name":"SF","help":"http://support.upverter.com/customer/portal/articles/978783-what-is-a-footprint-packing-level","children":["solder toe","solder heel","solder side","courtyard"]}}}; FOOTPRINT_VARIANT_NAME_0: Recommended_Land_Pattern; FOOTPRINT_VARIANT_NAME_1: IPC_A; FOOTPRINT_VARIANT_NAME_2: IPC_B; FOOTPRINT_VARIANT_NAME_3: IPC_C; FREQUENCY: 180MHz; HEIGHT: 1.6mm; INTERFACE: I2C,SPI,UART,USART,CAN,USB,LIN,IrDA,I2S,Other; LEAD_FREE: Yes; MAX_JUNCTION_TEMP: +125°C; MAX_SUPPLY_VOLTAGE: 3.6V; MEMORY_SIZE: 512KBytes; MEMORY_TYPE: FLASH; MF: STMicroelectronics; MFG_PACKAGE_IDENT: LQFP64-5W; MFG_PACKAGE_IDENT_COMPONENT_ID: ac0a92a8d775d0c0; MFG_PACKAGE_IDENT_DATE: 0; MFG_PACKAGE_IDENT_REV: 3; MIN_SUPPLY_VOLTAGE: 1.65V; MOUSER_DESCRIPTION: ARM Microcontrollers - MCU High-performance and DSP with FP, ARM Cortex-M4 MCU with 512 Kbytes Flash, 180 MHz CPU, Art Accelerator, SDRAM; MOUSER_PART_NUMBER: 511-STM32F446RET6; MPN: STM32F446RET6; NUMBER_OF_A/D_CONVERTERS: 3; NUMBER_OF_ADC_CHANNELS: 16; NUMBER_OF_CORES: 1; NUMBER_OF_I/OS: 50; NUMBER_OF_I2C_CHANNELS: 4; NUMBER_OF_PWM_CHANNELS: 25; NUMBER_OF_SPI_CHANNELS: 4; NUMBER_OF_TIMERS/COUNTERS: 14; NUMBER_OF_UART_CHANNELS: 6; NUMBER_OF_USB_CHANNELS: 2; PACKAGE: LQFP64; PREFIX: U; RAM_SIZE: 128KBytes; ROHS: Yes; STANDOFF_HEIGHT: 0.05mm; TEMPERATURE_RANGE_HIGH: +85°C; TEMPERATURE_RANGE_LOW: -40°C; VERIFICATION_VERSION: 0.0.0.3)  [STMICROELECTRONICS_STM32F446RET6_3]
Pads as for STMICROELECTRONICS_STM32F446RET6_0

## Footprint STMICROELECTRONICS_STM32F446RET6_0 (pad centres in mm)
MCU 32-bit ARM Cortex M4 RISC 512KB Flash 2.5V/3.3V Medical 64-Pin LQFP Frame
smd 1.2 x 0.3: 1 -5.75,3.75; 2 -5.75,3.25; 3 -5.75,2.75; 4 -5.75,2.25; 5 -5.75,1.75; 6 -5.75,1.25; 7 -5.75,0.75; 8 -5.75,0.25; 9 -5.75,-0.25; 10 -5.75,-0.75; 11 -5.75,-1.25; 12 -5.75,-1.75; 13 -5.75,-2.25; 14 -5.75,-2.75; 15 -5.75,-3.25; 16 -5.75,-3.75; 33 5.75,-3.75; 34 5.75,-3.25; 35 5.75,-2.75; 36 5.75,-2.25; 37 5.75,-1.75; 38 5.75,-1.25; 39 5.75,-0.75; 40 5.75,-0.25; 41 5.75,0.25; 42 5.75,0.75; 43 5.75,1.25; 44 5.75,1.75; 45 5.75,2.25; 46 5.75,2.75; 47 5.75,3.25; 48 5.75,3.75
smd 0.3 x 1.2: 17 -3.75,-5.75; 18 -3.25,-5.75; 19 -2.75,-5.75; 20 -2.25,-5.75; 21 -1.75,-5.75; 22 -1.25,-5.75; 23 -0.75,-5.75; 24 -0.25,-5.75; 25 0.25,-5.75; 26 0.75,-5.75; 27 1.25,-5.75; 28 1.75,-5.75; 29 2.25,-5.75; 30 2.75,-5.75; 31 3.25,-5.75; 32 3.75,-5.75; 49 3.75,5.75; 50 3.25,5.75; 51 2.75,5.75; 52 2.25,5.75; 53 1.75,5.75; 54 1.25,5.75; 55 0.75,5.75; 56 0.25,5.75; 57 -0.25,5.75; 58 -0.75,5.75; 59 -1.25,5.75; 60 -1.75,5.75; 61 -2.25,5.75; 62 -2.75,5.75; 63 -3.25,5.75; 64 -3.75,5.75

## Footprint STMICROELECTRONICS_STM32F446RET6_1 (pad centres in mm)
MCU 32-bit ARM Cortex M4 RISC 512KB Flash 2.5V/3.3V Medical 64-Pin LQFP Frame
smd 1.788 x 0.312: 1 -5.691,3.75; 2 -5.691,3.25; 3 -5.691,2.75; 4 -5.691,2.25; 5 -5.691,1.75; 6 -5.691,1.25; 7 -5.691,0.75; 8 -5.691,0.25; 9 -5.691,-0.25; 10 -5.691,-0.75; 11 -5.691,-1.25; 12 -5.691,-1.75; 13 -5.691,-2.25; 14 -5.691,-2.75; 15 -5.691,-3.25; 16 -5.691,-3.75; 33 5.691,-3.75; 34 5.691,-3.25; 35 5.691,-2.75; 36 5.691,-2.25; 37 5.691,-1.75; 38 5.691,-1.25; 39 5.691,-0.75; 40 5.691,-0.25; 41 5.691,0.25; 42 5.691,0.75; 43 5.691,1.25; 44 5.691,1.75; 45 5.691,2.25; 46 5.691,2.75; 47 5.691,3.25; 48 5.691,3.75
smd 0.312 x 1.788: 17 -3.75,-5.691; 18 -3.25,-5.691; 19 -2.75,-5.691; 20 -2.25,-5.691; 21 -1.75,-5.691; 22 -1.25,-5.691; 23 -0.75,-5.691; 24 -0.25,-5.691; 25 0.25,-5.691; 26 0.75,-5.691; 27 1.25,-5.691; 28 1.75,-5.691; 29 2.25,-5.691; 30 2.75,-5.691; 31 3.25,-5.691; 32 3.75,-5.691; 49 3.75,5.691; 50 3.25,5.691; 51 2.75,5.691; 52 2.25,5.691; 53 1.75,5.691; 54 1.25,5.691; 55 0.75,5.691; 56 0.25,5.691; 57 -0.25,5.691; 58 -0.75,5.691; 59 -1.25,5.691; 60 -1.75,5.691; 61 -2.25,5.691; 62 -2.75,5.691; 63 -3.25,5.691; 64 -3.75,5.691

## Footprint STMICROELECTRONICS_STM32F446RET6_2 (pad centres in mm)
MCU 32-bit ARM Cortex M4 RISC 512KB Flash 2.5V/3.3V Medical 64-Pin LQFP Frame
smd 1.488 x 0.252: 1 -5.641,3.75; 2 -5.641,3.25; 3 -5.641,2.75; 4 -5.641,2.25; 5 -5.641,1.75; 6 -5.641,1.25; 7 -5.641,0.75; 8 -5.641,0.25; 9 -5.641,-0.25; 10 -5.641,-0.75; 11 -5.641,-1.25; 12 -5.641,-1.75; 13 -5.641,-2.25; 14 -5.641,-2.75; 15 -5.641,-3.25; 16 -5.641,-3.75; 33 5.641,-3.75; 34 5.641,-3.25; 35 5.641,-2.75; 36 5.641,-2.25; 37 5.641,-1.75; 38 5.641,-1.25; 39 5.641,-0.75; 40 5.641,-0.25; 41 5.641,0.25; 42 5.641,0.75; 43 5.641,1.25; 44 5.641,1.75; 45 5.641,2.25; 46 5.641,2.75; 47 5.641,3.25; 48 5.641,3.75
smd 0.252 x 1.488: 17 -3.75,-5.641; 18 -3.25,-5.641; 19 -2.75,-5.641; 20 -2.25,-5.641; 21 -1.75,-5.641; 22 -1.25,-5.641; 23 -0.75,-5.641; 24 -0.25,-5.641; 25 0.25,-5.641; 26 0.75,-5.641; 27 1.25,-5.641; 28 1.75,-5.641; 29 2.25,-5.641; 30 2.75,-5.641; 31 3.25,-5.641; 32 3.75,-5.641; 49 3.75,5.641; 50 3.25,5.641; 51 2.75,5.641; 52 2.25,5.641; 53 1.75,5.641; 54 1.25,5.641; 55 0.75,5.641; 56 0.25,5.641; 57 -0.25,5.641; 58 -0.75,5.641; 59 -1.25,5.641; 60 -1.75,5.641; 61 -2.25,5.641; 62 -2.75,5.641; 63 -3.25,5.641; 64 -3.75,5.641

## Footprint STMICROELECTRONICS_STM32F446RET6_3 (pad centres in mm)
MCU 32-bit ARM Cortex M4 RISC 512KB Flash 2.5V/3.3V Medical 64-Pin LQFP Frame
smd 1.188 x 0.212: 1 -5.591,3.75; 2 -5.591,3.25; 3 -5.591,2.75; 4 -5.591,2.25; 5 -5.591,1.75; 6 -5.591,1.25; 7 -5.591,0.75; 8 -5.591,0.25; 9 -5.591,-0.25; 10 -5.591,-0.75; 11 -5.591,-1.25; 12 -5.591,-1.75; 13 -5.591,-2.25; 14 -5.591,-2.75; 15 -5.591,-3.25; 16 -5.591,-3.75; 33 5.591,-3.75; 34 5.591,-3.25; 35 5.591,-2.75; 36 5.591,-2.25; 37 5.591,-1.75; 38 5.591,-1.25; 39 5.591,-0.75; 40 5.591,-0.25; 41 5.591,0.25; 42 5.591,0.75; 43 5.591,1.25; 44 5.591,1.75; 45 5.591,2.25; 46 5.591,2.75; 47 5.591,3.25; 48 5.591,3.75
smd 0.212 x 1.188: 17 -3.75,-5.591; 18 -3.25,-5.591; 19 -2.75,-5.591; 20 -2.25,-5.591; 21 -1.75,-5.591; 22 -1.25,-5.591; 23 -0.75,-5.591; 24 -0.25,-5.591; 25 0.25,-5.591; 26 0.75,-5.591; 27 1.25,-5.591; 28 1.75,-5.591; 29 2.25,-5.591; 30 2.75,-5.591; 31 3.25,-5.591; 32 3.75,-5.591; 49 3.75,5.591; 50 3.25,5.591; 51 2.75,5.591; 52 2.25,5.591; 53 1.75,5.591; 54 1.25,5.591; 55 0.75,5.591; 56 0.25,5.591; 57 -0.25,5.591; 58 -0.75,5.591; 59 -1.25,5.591; 60 -1.75,5.591; 61 -2.25,5.591; 62 -2.75,5.591; 63 -3.25,5.591; 64 -3.75,5.591